# EAGLE library part PIC24FJ*GB106 (library Microchip)
64-Pin, 16-Bit Flash Microcontroller with USB On-The-Go (OTG)
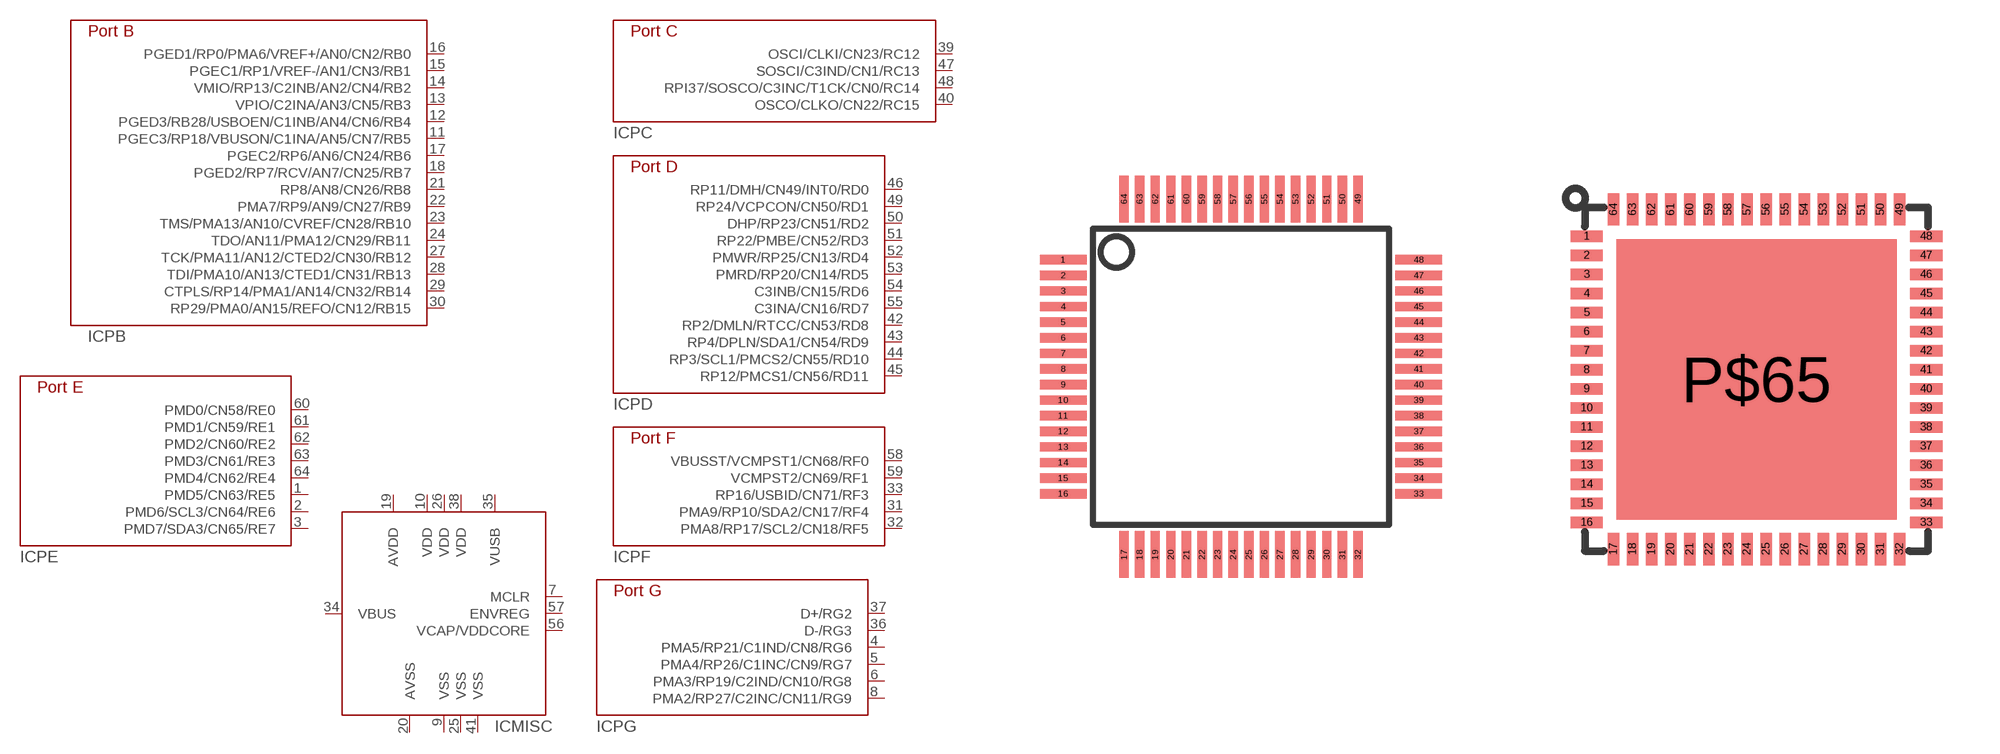
[diagram p21: symbol with the pads of TQ64-PT; footprints TQ64-PT, QFN64-MR]

Designator prefix IC; gates PB=PIC24FJXXXGB106-PB PC=PIC24FJXXXGB106-PC PD=PIC24FJXXXGB106-PD PE=PIC24FJXXXGB106-PE PF=PIC24FJXXXGB106-PF PG=PIC24FJXXXGB106-PG MISC=PIC24FJXXXGB106-MISC

## PIC24FJ64GB106-PT, PIC24FJ128GB106-PT, PIC24FJ192GB106-PT, PIC24FJ256GB106-PT  [TQ64-PT]
1  PE:PMD5/CN63/RE5
2  PE:PMD6/SCL3/CN64/RE6
3  PE:PMD7/SDA3/CN65/RE7
4  PG:PMA5/RP21/C1IND/CN8/RG6
5  PG:PMA4/RP26/C1INC/CN9/RG7
6  PG:PMA3/RP19/C2IND/CN10/RG8
7  MISC:MCLR
8  PG:PMA2/RP27/C2INC/CN11/RG9
9  MISC:VSS
10  MISC:VDD
11  PB:PGEC3/RP18/VBUSON/C1INA/AN5/CN7/RB5
12  PB:PGED3/RB28/USBOEN/C1INB/AN4/CN6/RB4
13  PB:VPIO/C2INA/AN3/CN5/RB3
14  PB:VMIO/RP13/C2INB/AN2/CN4/RB2
15  PB:PGEC1/RP1/VREF-/AN1/CN3/RB1
16  PB:PGED1/RP0/PMA6/VREF+/AN0/CN2/RB0
17  PB:PGEC2/RP6/AN6/CN24/RB6
18  PB:PGED2/RP7/RCV/AN7/CN25/RB7
19  MISC:AVDD
20  MISC:AVSS
21  PB:RP8/AN8/CN26/RB8
22  PB:PMA7/RP9/AN9/CN27/RB9
23  PB:TMS/PMA13/AN10/CVREF/CN28/RB10
24  PB:TDO/AN11/PMA12/CN29/RB11
25  MISC:VSS
26  MISC:VDD
27  PB:TCK/PMA11/AN12/CTED2/CN30/RB12
28  PB:TDI/PMA10/AN13/CTED1/CN31/RB13
29  PB:CTPLS/RP14/PMA1/AN14/CN32/RB14
30  PB:RP29/PMA0/AN15/REFO/CN12/RB15
31  PF:PMA9/RP10/SDA2/CN17/RF4
32  PF:PMA8/RP17/SCL2/CN18/RF5
33  PF:RP16/USBID/CN71/RF3
34  MISC:VBUS
35  MISC:VUSB
36  PG:D-/RG3
37  PG:D+/RG2
38  MISC:VDD
39  PC:OSCI/CLKI/CN23/RC12
40  PC:OSCO/CLKO/CN22/RC15
41  MISC:VSS
42  PD:RP2/DMLN/RTCC/CN53/RD8
43  PD:RP4/DPLN/SDA1/CN54/RD9
44  PD:RP3/SCL1/PMCS2/CN55/RD10
45  PD:RP12/PMCS1/CN56/RD11
46  PD:RP11/DMH/CN49/INT0/RD0
47  PC:SOSCI/C3IND/CN1/RC13
48  PC:RPI37/SOSCO/C3INC/T1CK/CN0/RC14
49  PD:RP24/VCPCON/CN50/RD1
50  PD:DHP/RP23/CN51/RD2
51  PD:RP22/PMBE/CN52/RD3
52  PD:PMWR/RP25/CN13/RD4
53  PD:PMRD/RP20/CN14/RD5
54  PD:C3INB/CN15/RD6
55  PD:C3INA/CN16/RD7
56  MISC:VCAP/VDDCORE
57  MISC:ENVREG
58  PF:VBUSST/VCMPST1/CN68/RF0
59  PF:VCMPST2/CN69/RF1
60  PE:PMD0/CN58/RE0
61  PE:PMD1/CN59/RE1
62  PE:PMD2/CN60/RE2
63  PE:PMD3/CN61/RE3
64  PE:PMD4/CN62/RE4

## PIC24FJ64GB106-MR, PIC24FJ128GB106-MR, PIC24FJ192GB106-MR, PIC24FJ256GB106-MR  [QFN64-MR]
Pads as for TQ64-PT

## Footprint TQ64-PT (pad centres in mm)
TQFP 64 pin, 0.5mm pitch, 16x16, Microchip PT package
smd 1.5 x 0.3: 1 -5.7,3.75; 2 -5.7,3.25; 3 -5.7,2.75; 4 -5.7,2.25; 5 -5.7,1.75; 6 -5.7,1.25; 7 -5.7,0.75; 8 -5.7,0.25; 9 -5.7,-0.25; 10 -5.7,-0.75; 11 -5.7,-1.25; 12 -5.7,-1.75; 13 -5.7,-2.25; 14 -5.7,-2.75; 15 -5.7,-3.25; 16 -5.7,-3.75; 33 5.7,-3.75; 34 5.7,-3.25; 35 5.7,-2.75; 36 5.7,-2.25; 37 5.7,-1.75; 38 5.7,-1.25; 39 5.7,-0.75; 40 5.7,-0.25; 41 5.7,0.25; 42 5.7,0.75; 43 5.7,1.25; 44 5.7,1.75; 45 5.7,2.25; 46 5.7,2.75; 47 5.7,3.25; 48 5.7,3.75
smd 0.3 x 1.5: 17 -3.75,-5.7; 18 -3.25,-5.7; 19 -2.75,-5.7; 20 -2.25,-5.7; 21 -1.75,-5.7; 22 -1.25,-5.7; 23 -0.75,-5.7; 24 -0.25,-5.7; 25 0.25,-5.7; 26 0.75,-5.7; 27 1.25,-5.7; 28 1.75,-5.7; 29 2.25,-5.7; 30 2.75,-5.7; 31 3.25,-5.7; 32 3.75,-5.7; 49 3.75,5.7; 50 3.25,5.7; 51 2.75,5.7; 52 2.25,5.7; 53 1.75,5.7; 54 1.25,5.7; 55 0.75,5.7; 56 0.25,5.7; 57 -0.25,5.7; 58 -0.75,5.7; 59 -1.25,5.7; 60 -1.75,5.7; 61 -2.25,5.7; 62 -2.75,5.7; 63 -3.25,5.7; 64 -3.75,5.7

## Footprint QFN64-MR (pad centres in mm)
64-Lead Plastic Quad Flat, No Lead Package (MR) - 9x9x0.0mm Body (QFN)
smd 0.85 x 0.3: 1 -4.45,3.75; 2 -4.45,3.25; 3 -4.45,2.75; 4 -4.45,2.25; 5 -4.45,1.75; 6 -4.45,1.25; 7 -4.45,0.75; 8 -4.45,0.25; 9 -4.45,-0.25; 10 -4.45,-0.75; 11 -4.45,-1.25; 12 -4.45,-1.75; 13 -4.45,-2.25; 14 -4.45,-2.75; 15 -4.45,-3.25; 16 -4.45,-3.75; 33 4.45,-3.75; 34 4.45,-3.25; 35 4.45,-2.75; 36 4.45,-2.25; 37 4.45,-1.75; 38 4.45,-1.25; 39 4.45,-0.75; 40 4.45,-0.25; 41 4.45,0.25; 42 4.45,0.75; 43 4.45,1.25; 44 4.45,1.75; 45 4.45,2.25; 46 4.45,2.75; 47 4.45,3.25; 48 4.45,3.75
smd 0.3 x 0.85: 17 -3.75,-4.45; 18 -3.25,-4.45; 19 -2.75,-4.45; 20 -2.25,-4.45; 21 -1.75,-4.45; 22 -1.25,-4.45; 23 -0.75,-4.45; 24 -0.25,-4.45; 25 0.25,-4.45; 26 0.75,-4.45; 27 1.25,-4.45; 28 1.75,-4.45; 29 2.25,-4.45; 30 2.75,-4.45; 31 3.25,-4.45; 32 3.75,-4.45; 49 3.75,4.45; 50 3.25,4.45; 51 2.75,4.45; 52 2.25,4.45; 53 1.75,4.45; 54 1.25,4.45; 55 0.75,4.45; 56 0.25,4.45; 57 -0.25,4.45; 58 -0.75,4.45; 59 -1.25,4.45; 60 -1.75,4.45; 61 -2.25,4.45; 62 -2.75,4.45; 63 -3.25,4.45; 64 -3.75,4.45
smd 7.35 x 7.35: P$65 0,0